# Altium footprint library STM32_PLC.PcbLib: 129 footprints (part 8 of 9)
Each footprint in its own frame and in the unit in brackets; x right, y up, seen from the top. Pads: shape width x height; smd on the part's side, far side on the other; paste and mask are expansions set on the pad; w line width, h text height; cw(c..) or ccw(c..) is an arc to the next point about the centre after c.
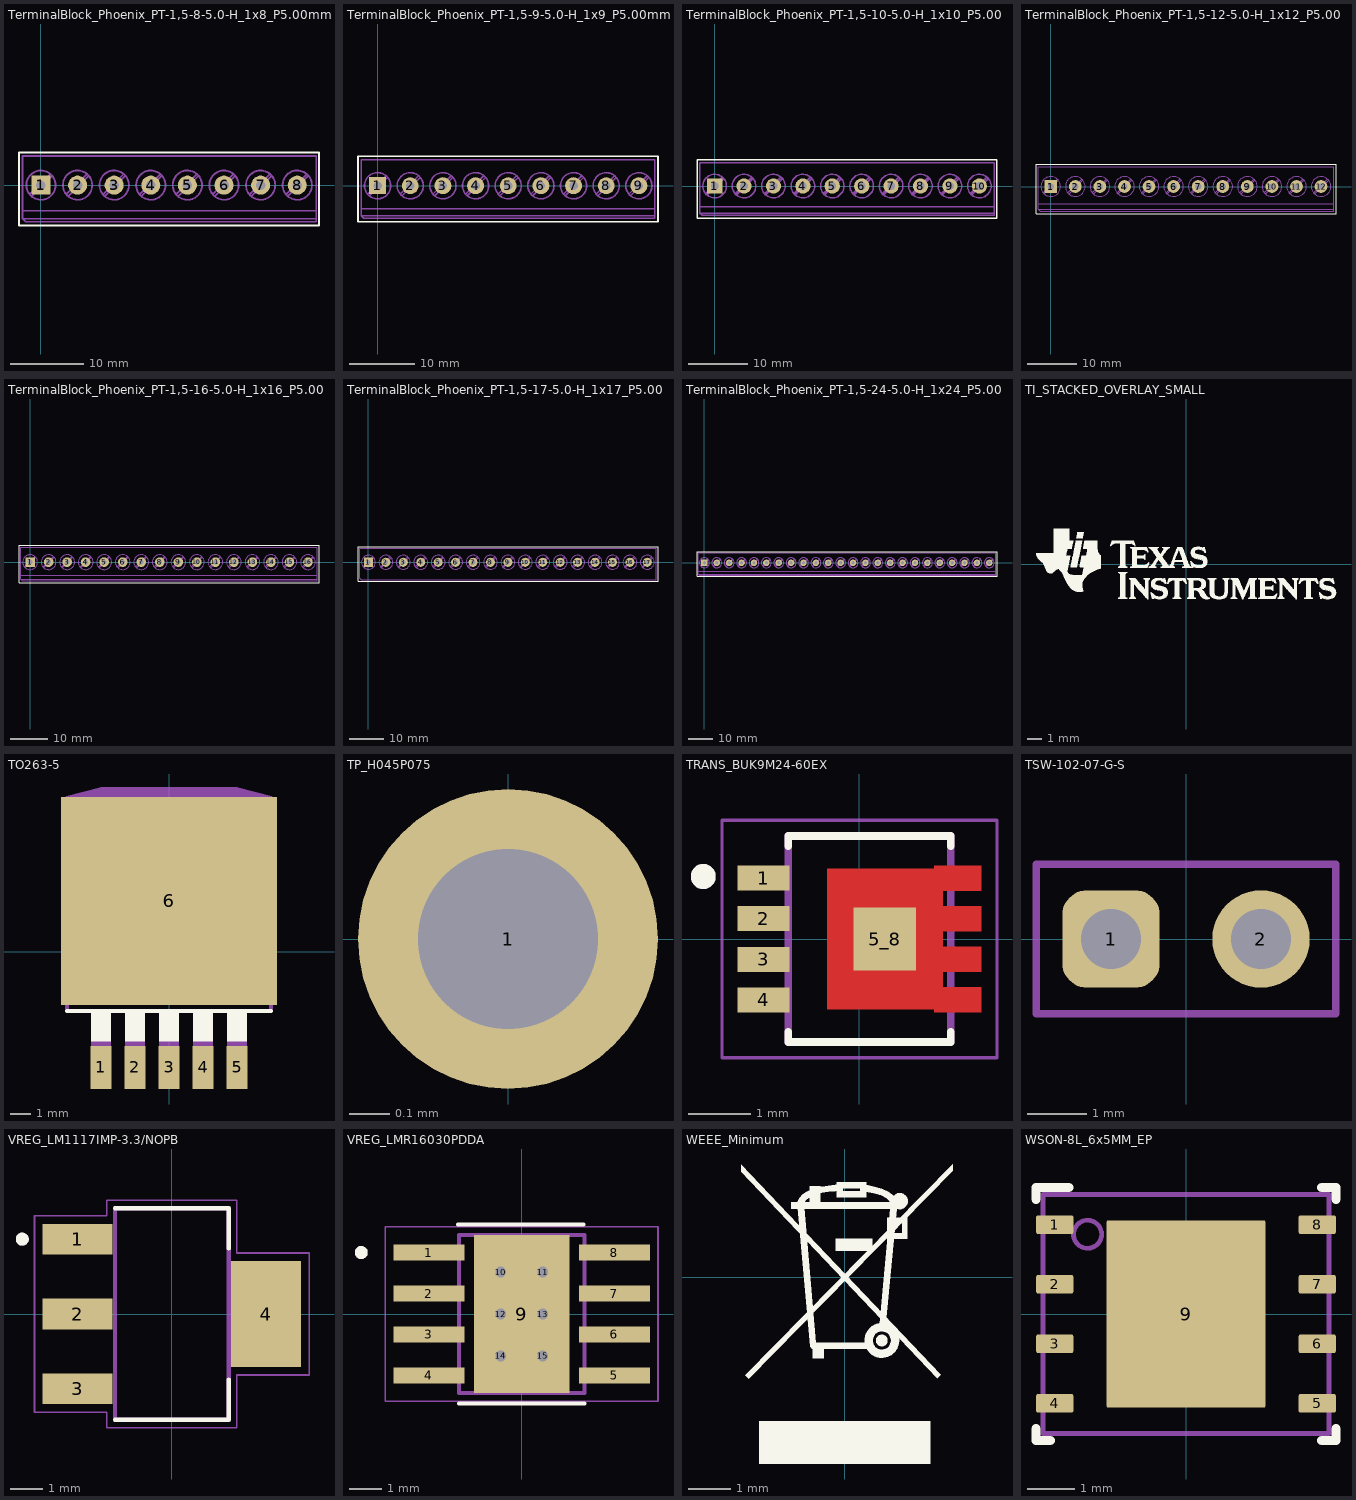
[diagram p7: the footprints below, top view; thin cyan lines are the x and y axes]

## TerminalBlock_Phoenix_PT-1,5-8-5.0-H_1x8_P5.00mm_Horizontal [mm]
pads (8):
  rect 2.6x2.6 hole 1.3: 1(0,0)
  round 2.6 hole 1.3: 2(5,0) 3(10,0) 4(15,0) 5(20,0) 6(25,0) 7(30,0) 8(35,0)
Mid-Layer 26:
  circle w0.254: c35,0 r2.18
  circle w0.254: c30,0 r2.18
  circle w0.254: c25,0 r2.18
  circle w0.254: c20,0 r2.18
  circle w0.254: c15,0 r2.18
  circle w0.254: c10,0 r2.18
  circle w0.254: c5,0 r2.18
  circle w0.254: c0,0 r2.18
  lines w0.254: -2.8,-4.66 -2.8,-5.3 -2.4,-5.3 ; -2.56,-4.6 37.592,-4.6 ; -2.56,-3.5 37.592,-3.5 ; -1.654,-1.388 -1.548,-1.281 ; -1.388,-1.654 -1.282,-1.547 ; 1.281,1.547 1.388,1.654 ; 1.547,1.281 1.654,1.388 ; 3.347,-1.388 3.742,-0.992 ; 3.613,-1.654 3.993,-1.274 ; 6.008,1.274 6.388,1.654 ; 6.259,0.992 6.654,1.388 ; 8.347,-1.388 8.742,-0.992 ; 8.613,-1.654 8.993,-1.274 ; 11.008,1.274 11.388,1.654 ; 11.259,0.992 11.654,1.388 ; 13.347,-1.388 13.742,-0.992 ; 13.613,-1.654 13.993,-1.274 ; 16.008,1.274 16.388,1.654 ; 16.259,0.992 16.654,1.388 ; 18.347,-1.388 18.742,-0.992 ; 18.613,-1.654 18.993,-1.274 ; 21.008,1.274 21.388,1.654 ; 21.259,0.992 21.654,1.388 ; 23.347,-1.388 23.742,-0.992 ; 23.613,-1.654 23.993,-1.274 ; 26.008,1.274 26.388,1.654 ; 26.259,0.992 26.654,1.388 ; 28.347,-1.388 28.742,-0.992 ; 28.613,-1.654 28.993,-1.274 ; 31.008,1.274 31.388,1.654 ; 31.259,0.992 31.654,1.388 ; 33.347,-1.388 33.742,-0.992 ; 33.613,-1.654 33.993,-1.274 ; 36.008,1.274 36.388,1.654 ; 36.259,0.992 36.654,1.388 ; -2.56,-5.06 37.592,-5.06 37.592,4.06 -2.56,4.06 -2.56,-5.06
Top Overlay:
  lines w0.254: -3,-5.5 37.973,-5.5 37.973,4.445 -3,4.445 -3,-5.5
Mechanical 6:
  circle w0.254: c35,0 r2
  circle w0.254: c30,0 r2
  circle w0.254: c25,0 r2
  circle w0.254: c20,0 r2
  circle w0.254: c15,0 r2
  circle w0.254: c10,0 r2
  circle w0.254: c5,0 r2
  circle w0.254: c0,0 r2
  lines w0.254: -2.5,-3.5 37.592,-3.556 ; -1.517,-1.273 1.273,1.517 ; -1.273,-1.517 1.517,1.273 ; 3.484,-1.273 6.273,1.517 ; 3.728,-1.517 6.517,1.273 ; 8.484,-1.273 11.273,1.517 ; 8.728,-1.517 11.517,1.273 ; 13.484,-1.273 16.273,1.517 ; 13.728,-1.517 16.517,1.273 ; 18.484,-1.273 21.273,1.517 ; 18.728,-1.517 21.517,1.273 ; 23.484,-1.273 26.273,1.517 ; 23.728,-1.517 26.517,1.273 ; 28.484,-1.273 31.273,1.517 ; 28.728,-1.517 31.517,1.273 ; 33.484,-1.273 36.273,1.517 ; 33.728,-1.517 36.517,1.273 ; 37.592,-4.6 -2.5,-4.6 ; -2.5,-4.6 -2.1,-5 37.592,-5 37.592,-2.75 37.592,1.75 37.592,4 -2.5,4 -2.5,-4.6
  text "'.Designator'" at 21.061,-3.298 h1

## TerminalBlock_Phoenix_PT-1,5-9-5.0-H_1x9_P5.00mm [mm]
pads (9):
  rect 2.6x2.6 hole 1.3: 1(0,0)
  round 2.6 hole 1.3: 2(5,0) 3(10,0) 4(15,0) 5(20,0) 6(25,0) 7(30,0) 8(35,0) 9(40,0)
Top Overlay:
  lines w0.254: -3,-5.5 42.926,-5.5 42.926,4.5 -3,4.5 -3,-5.5
Mechanical 6:
  circle w0.254: c0,0 r2
  circle w0.254: c5,0 r2
  circle w0.254: c10,0 r2
  circle w0.254: c15,0 r2
  circle w0.254: c20,0 r2
  circle w0.254: c25,0 r2
  circle w0.254: c30,0 r2
  circle w0.254: c35,0 r2
  circle w0.254: c40,0 r2
  lines w0.254: -2.5,-3.5 42.418,-3.5 ; -1.517,-1.273 1.273,1.517 ; -1.273,-1.517 1.517,1.273 ; 3.484,-1.273 6.273,1.517 ; 3.728,-1.517 6.517,1.273 ; 8.484,-1.273 11.273,1.517 ; 8.728,-1.517 11.517,1.273 ; 13.484,-1.273 16.273,1.517 ; 13.728,-1.517 16.517,1.273 ; 18.484,-1.273 21.273,1.517 ; 18.728,-1.517 21.517,1.273 ; 23.484,-1.273 26.273,1.517 ; 23.728,-1.517 26.517,1.273 ; 28.484,-1.273 31.273,1.517 ; 28.728,-1.517 31.517,1.273 ; 33.484,-1.273 36.273,1.517 ; 33.728,-1.517 36.517,1.273 ; 38.484,-1.273 41.273,1.517 ; 38.728,-1.517 41.517,1.273 ; 42.418,-4.6 -2.5,-4.6 ; -2.5,-4.6 -2.5,4 42.418,4 42.418,-5 -2.1,-5 -2.5,-4.6
  text "'.Designator'" at 21.061,-3.298 h1
3D body "TerminalBlock_Phoenix_PT-1,5-5-5.0-H_1x05_P5.00mm_Horizontal.step": height 11.4, standoff -3.6, extent -2.54,-4.936 23.03,4.064
3D body "TerminalBlock_Phoenix_PT-1,5-2-5.0-H_1x02_P5.00mm_Horizontal.step": height 11.4, standoff -3.6, extent 22.454,-4.936 33.024,4.064
3D body "TerminalBlock_Phoenix_PT-1,5-2-5.0-H_1x02_P5.00mm_Horizontal.step": height 11.4, standoff -3.6, extent 32.436,-4.936 43.006,4.064

## TerminalBlock_Phoenix_PT-1,5-10-5.0-H_1x10_P5.00mm_Horizontal - duplicate [mm]
pads (10):
  rect 2.6x2.6 hole 1.3: 1(0,0)
  round 2.6 hole 1.3: 2(5,0) 3(10,0) 4(15,0) 5(20,0) 6(25,0) 7(30,0) 8(35,0) 9(40,0) 10(45,0)
Top Overlay:
  lines w0.254: -3,-5.5 48,-5.5 48,4.5 -3,4.5 -3,-5.5
Mechanical 6:
  circle w0.254: c45,0 r2
  circle w0.254: c40,0 r2
  circle w0.254: c35,0 r2
  circle w0.254: c30,0 r2
  circle w0.254: c25,0 r2
  circle w0.254: c20,0 r2
  circle w0.254: c15,0 r2
  circle w0.254: c10,0 r2
  circle w0.254: c5,0 r2
  circle w0.254: c0,0 r2
  lines w0.254: -2.5,-3.5 47.5,-3.5 ; -1.517,-1.273 1.273,1.517 ; -1.273,-1.517 1.517,1.273 ; 3.484,-1.273 6.273,1.517 ; 3.728,-1.517 6.517,1.273 ; 8.484,-1.273 11.273,1.517 ; 8.728,-1.517 11.517,1.273 ; 13.484,-1.273 16.273,1.517 ; 13.728,-1.517 16.517,1.273 ; 18.484,-1.273 21.273,1.517 ; 18.728,-1.517 21.517,1.273 ; 23.484,-1.273 26.273,1.517 ; 23.728,-1.517 26.517,1.273 ; 28.484,-1.273 31.273,1.517 ; 28.728,-1.517 31.517,1.273 ; 33.484,-1.273 36.273,1.517 ; 33.728,-1.517 36.517,1.273 ; 38.484,-1.273 41.273,1.517 ; 38.728,-1.517 41.517,1.273 ; 43.484,-1.273 46.273,1.517 ; 43.728,-1.517 46.517,1.273 ; 47.5,-4.6 -2.5,-4.6 ; -2.5,-4.6 -2.1,-5 47.5,-5 47.5,4 -2.5,4 -2.5,-4.6
  text "'.Designator'" at 21.061,-3.298 h1
3D body "TerminalBlock_Phoenix_PT-1,5-10-5.0-H_1x10_P5.00mm_Horizontal.step": height 11.4, standoff -3.6, extent -2.54,-4.936 48.03,4.064

## TerminalBlock_Phoenix_PT-1,5-12-5.0-H_1x12_P5.00mm_Horizontal [mm]
pads (12):
  rect 2.6x2.6 hole 1.3: 1(0,0)
  round 2.6 hole 1.3: 2(5,0) 3(10,0) 4(15,0) 5(20,0) 6(25,0) 7(30,0) 8(35,0) 9(40,0) 10(45,0) 11(50,0) 12(55,0)
Top Overlay:
  lines w0.254: -3,-5.5 58.039,-5.5 58.039,4.5 -3,4.5 -3,-5.5
Mechanical 6:
  circle w0.254: c55,0 r2
  circle w0.254: c50,0 r2
  circle w0.254: c0,0 r2
  circle w0.254: c5,0 r2
  circle w0.254: c10,0 r2
  circle w0.254: c15,0 r2
  circle w0.254: c20,0 r2
  circle w0.254: c25,0 r2
  circle w0.254: c30,0 r2
  circle w0.254: c35,0 r2
  circle w0.254: c40,0 r2
  circle w0.254: c45,0 r2
  lines w0.254: -2.5,-3.5 57.404,-3.5 ; -1.517,-1.273 1.273,1.517 ; -1.273,-1.517 1.517,1.273 ; 3.484,-1.273 6.273,1.517 ; 3.728,-1.517 6.517,1.273 ; 8.484,-1.273 11.273,1.517 ; 8.728,-1.517 11.517,1.273 ; 13.484,-1.273 16.273,1.517 ; 13.728,-1.517 16.517,1.273 ; 18.484,-1.273 21.273,1.517 ; 18.728,-1.517 21.517,1.273 ; 23.484,-1.273 26.273,1.517 ; 23.728,-1.517 26.517,1.273 ; 28.484,-1.273 31.273,1.517 ; 28.728,-1.517 31.517,1.273 ; 33.484,-1.273 36.273,1.517 ; 33.728,-1.517 36.517,1.273 ; 38.484,-1.273 41.273,1.517 ; 38.728,-1.517 41.517,1.273 ; 43.484,-1.273 46.273,1.517 ; 43.728,-1.517 46.517,1.273 ; 48.484,-1.273 51.273,1.517 ; 48.728,-1.517 51.517,1.273 ; 53.484,-1.273 56.273,1.517 ; 53.728,-1.517 56.517,1.273 ; 57.404,-4.6 -2.5,-4.6 ; 57.531,-5 -2.1,-5 -2.5,-4.6 ; 57.531,4 -2.5,4 -2.5,-4.6 ; 57.54,-5 57.54,4
  text "'.Designator'" at 21.061,-3.298 h1
3D body "TerminalBlock_Phoenix_PT-1,5-12-5.0-H_1x12_P5.00mm_Horizontal.step": height 11.4, standoff -3.6, extent -2.54,-4.936 58.03,4.064

## TerminalBlock_Phoenix_PT-1,5-16-5.0-H_1x16_P5.00mm_Horizontal [mm]
pads (16):
  rect 2.6x2.6 hole 1.3: 1(0,0)
  round 2.6 hole 1.3: 2(5,0) 3(10,0) 4(15,0) 5(20,0) 6(25,0) 7(30,0) 8(35,0) 9(40,0) 10(45,0) 11(50,0) 12(55,0) 13(60,0) 14(65,0) 15(70,0) 16(75,0)
Top Overlay:
  lines w0.254: -3,-5.5 77.978,-5.5 77.978,4.5 -3,4.5 -3,-5.5
Mechanical 6:
  circle w0.254: c0,0 r2
  circle w0.254: c5,0 r2
  circle w0.254: c10,0 r2
  circle w0.254: c15,0 r2
  circle w0.254: c20,0 r2
  circle w0.254: c25,0 r2
  circle w0.254: c30,0 r2
  circle w0.254: c35,0 r2
  circle w0.254: c40,0 r2
  circle w0.254: c45,0 r2
  circle w0.254: c50,0 r2
  circle w0.254: c55,0 r2
  circle w0.254: c60,0 r2
  circle w0.254: c65,0 r2
  circle w0.254: c70,0 r2
  circle w0.254: c75,0 r2
  lines w0.254: -2.5,-3.5 77.47,-3.5 ; -1.517,-1.273 1.273,1.517 ; -1.273,-1.517 1.517,1.273 ; 3.484,-1.273 6.273,1.517 ; 3.728,-1.517 6.517,1.273 ; 8.484,-1.273 11.273,1.517 ; 8.728,-1.517 11.517,1.273 ; 13.484,-1.273 16.273,1.517 ; 13.728,-1.517 16.517,1.273 ; 18.484,-1.273 21.273,1.517 ; 18.728,-1.517 21.517,1.273 ; 23.484,-1.273 26.273,1.517 ; 23.728,-1.517 26.517,1.273 ; 28.484,-1.273 31.273,1.517 ; 28.728,-1.517 31.517,1.273 ; 33.484,-1.273 36.273,1.517 ; 33.728,-1.517 36.517,1.273 ; 38.484,-1.273 41.273,1.517 ; 38.728,-1.517 41.517,1.273 ; 43.484,-1.273 46.273,1.517 ; 43.728,-1.517 46.517,1.273 ; 48.484,-1.273 51.273,1.517 ; 48.728,-1.517 51.517,1.273 ; 53.484,-1.273 56.273,1.517 ; 53.728,-1.517 56.517,1.273 ; 58.484,-1.273 61.273,1.517 ; 58.728,-1.517 61.517,1.273 ; 63.484,-1.273 66.273,1.517 ; 63.728,-1.517 66.517,1.273 ; 68.484,-1.273 71.273,1.517 ; 68.728,-1.517 71.517,1.273 ; 73.484,-1.273 76.273,1.517 ; 73.728,-1.517 76.517,1.273 ; 77.47,-4.6 -2.5,-4.6 ; -2.5,-4.6 -2.1,-5 77.47,-5 77.47,4 -2.5,4 -2.5,-4.6
  text "'.Designator'" at 26.061,-3.298 h1
3D body "TerminalBlock_Phoenix_PT-1,5-12-5.0-H_1x12_P5.00mm_Horizontal.step": height 11.4, standoff -3.6, extent -2.54,-4.936 58.03,4.064
3D body "TerminalBlock_Phoenix_PT-1,5-2-5.0-H_1x02_P5.00mm_Horizontal.step": height 11.4, standoff -3.6, extent 57.455,-4.936 68.025,4.064
3D body "TerminalBlock_Phoenix_PT-1,5-2-5.0-H_1x02_P5.00mm_Horizontal.step": height 11.4, standoff -3.6, extent 67.437,-4.936 78.007,4.064

## TerminalBlock_Phoenix_PT-1,5-17-5.0-H_1x17_P5.00mm_Horizontal [mm]
pads (17):
  rect 2.6x2.6 hole 1.3: 1(0,0)
  round 2.6 hole 1.3: 2(5,0) 3(10,0) 4(15,0) 5(20,0) 6(25,0) 7(30,0) 8(35,0) 9(40,0) 10(45,0) 11(50,0) 12(55,0) 13(60,0) 14(65,0) 15(70,0) 16(75,0) 17(80,0)
Top Overlay:
  lines w0.254: -3,-5.5 83.058,-5.5 83.058,4.5 -3,4.5 -3,-5.5
Mechanical 6:
  circle w0.254: c75,0 r2
  circle w0.254: c70,0 r2
  circle w0.254: c65,0 r2
  circle w0.254: c60,0 r2
  circle w0.254: c55,0 r2
  circle w0.254: c50,0 r2
  circle w0.254: c45,0 r2
  circle w0.254: c40,0 r2
  circle w0.254: c35,0 r2
  circle w0.254: c30,0 r2
  circle w0.254: c25,0 r2
  circle w0.254: c20,0 r2
  circle w0.254: c15,0 r2
  circle w0.254: c10,0 r2
  circle w0.254: c5,0 r2
  circle w0.254: c0,0 r2
  circle w0.254: c80,0 r2
  lines w0.254: -1.517,-1.273 1.273,1.517 ; -1.273,-1.517 1.517,1.273 ; 3.484,-1.273 6.273,1.517 ; 3.728,-1.517 6.517,1.273 ; 8.484,-1.273 11.273,1.517 ; 8.728,-1.517 11.517,1.273 ; 13.484,-1.273 16.273,1.517 ; 13.728,-1.517 16.517,1.273 ; 18.484,-1.273 21.273,1.517 ; 18.728,-1.517 21.517,1.273 ; 23.484,-1.273 26.273,1.517 ; 23.728,-1.517 26.517,1.273 ; 28.484,-1.273 31.273,1.517 ; 28.728,-1.517 31.517,1.273 ; 33.484,-1.273 36.273,1.517 ; 33.728,-1.517 36.517,1.273 ; 38.484,-1.273 41.273,1.517 ; 38.728,-1.517 41.517,1.273 ; 43.484,-1.273 46.273,1.517 ; 43.728,-1.517 46.517,1.273 ; 48.484,-1.273 51.273,1.517 ; 48.728,-1.517 51.517,1.273 ; 53.484,-1.273 56.273,1.517 ; 53.728,-1.517 56.517,1.273 ; 58.484,-1.273 61.273,1.517 ; 58.728,-1.517 61.517,1.273 ; 63.484,-1.273 66.273,1.517 ; 63.728,-1.517 66.517,1.273 ; 68.484,-1.273 71.273,1.517 ; 68.728,-1.517 71.517,1.273 ; 73.484,-1.273 76.273,1.517 ; 73.728,-1.517 76.517,1.273 ; 78.484,-1.273 81.273,1.517 ; 78.728,-1.517 81.517,1.273 ; -2.5,-4.6 -2.1,-5 82.55,-5 82.55,4 -2.5,4 -2.5,-4.6
  text "'.Designator'" at 26.061,-3.298 h1
3D body "TerminalBlock_Phoenix_PT-1,5-12-5.0-H_1x12_P5.00mm_Horizontal.step": height 11.4, standoff -3.6, extent -2.54,-4.936 58.03,4.064
3D body "TerminalBlock_Phoenix_PT-1,5-5-5.0-H_1x05_P5.00mm_Horizontal.step": height 11.4, standoff -3.6, extent 57.455,-4.936 83.025,4.064

## TerminalBlock_Phoenix_PT-1,5-24-5.0-H_1x24_P5.00mm_Horizontal [mm]
pads (24):
  rect 2.6x2.6 hole 1.3: 1(0,0)
  round 2.6 hole 1.3: 2(5,0) 3(10,0) 4(15,0) 5(20,0) 6(25,0) 7(30,0) 8(35,0) 9(40,0) 10(45,0) 11(50,0) 12(55,0) 13(60,0) 14(65,0) 15(70,0) 16(75,0) 17(80,0) 18(85,0) 19(90,0) 20(95,0) 21(100,0) 22(105,0) 23(110,0) 24(115,0)
Top Overlay:
  lines w0.254: -3,-5.5 118.1,-5.5 118.1,4.5 -3,4.5 -3,-5.5
Mechanical 6:
  circle w0.254: c75,0 r2
  circle w0.254: c70,0 r2
  circle w0.254: c65,0 r2
  circle w0.254: c60,0 r2
  circle w0.254: c55,0 r2
  circle w0.254: c50,0 r2
  circle w0.254: c45,0 r2
  circle w0.254: c40,0 r2
  circle w0.254: c35,0 r2
  circle w0.254: c30,0 r2
  circle w0.254: c25,0 r2
  circle w0.254: c20,0 r2
  circle w0.254: c15,0 r2
  circle w0.254: c10,0 r2
  circle w0.254: c5,0 r2
  circle w0.254: c0,0 r2
  circle w0.254: c95,0 r2
  circle w0.254: c115,0 r2
  circle w0.254: c110,0 r2
  circle w0.254: c105,0 r2
  circle w0.254: c100,0 r2
  circle w0.254: c90,0 r2
  circle w0.254: c85,0 r2
  circle w0.254: c80,0 r2
  lines w0.254: -2.5,-3.5 117.5,-3.5 ; -1.517,-1.273 1.273,1.517 ; -1.273,-1.517 1.517,1.273 ; 3.484,-1.273 6.273,1.517 ; 3.728,-1.517 6.517,1.273 ; 8.484,-1.273 11.273,1.517 ; 8.728,-1.517 11.517,1.273 ; 13.484,-1.273 16.273,1.517 ; 13.728,-1.517 16.517,1.273 ; 18.484,-1.273 21.273,1.517 ; 18.728,-1.517 21.517,1.273 ; 23.484,-1.273 26.273,1.517 ; 23.728,-1.517 26.517,1.273 ; 28.484,-1.273 31.273,1.517 ; 28.728,-1.517 31.517,1.273 ; 33.484,-1.273 36.273,1.517 ; 33.728,-1.517 36.517,1.273 ; 38.484,-1.273 41.273,1.517 ; 38.728,-1.517 41.517,1.273 ; 43.484,-1.273 46.273,1.517 ; 43.728,-1.517 46.517,1.273 ; 48.484,-1.273 51.273,1.517 ; 48.728,-1.517 51.517,1.273 ; 53.484,-1.273 56.273,1.517 ; 53.728,-1.517 56.517,1.273 ; 58.484,-1.273 61.273,1.517 ; 58.728,-1.517 61.517,1.273 ; 63.484,-1.273 66.273,1.517 ; 63.728,-1.517 66.517,1.273 ; 68.484,-1.273 71.273,1.517 ; 68.728,-1.517 71.517,1.273 ; 73.484,-1.273 76.273,1.517 ; 73.728,-1.517 76.517,1.273 ; 78.484,-1.273 81.273,1.517 ; 78.728,-1.517 81.517,1.273 ; 83.484,-1.273 86.273,1.517 ; 83.728,-1.517 86.517,1.273 ; 88.484,-1.273 91.273,1.517 ; 88.728,-1.517 91.517,1.273 ; 93.484,-1.273 96.273,1.517 ; 93.728,-1.517 96.517,1.273 ; 98.484,-1.273 101.273,1.517 ; 98.728,-1.517 101.517,1.273 ; 103.484,-1.273 106.273,1.517 ; 103.728,-1.517 106.517,1.273 ; 108.484,-1.273 111.273,1.517 ; 108.728,-1.517 111.517,1.273 ; 113.484,-1.273 116.273,1.517 ; 113.728,-1.517 116.517,1.273 ; 117.5,-4.6 -2.5,-4.6 ; -2.5,-4.6 -2.1,-5 117.6,-5 117.6,4 -2.5,4 -2.5,-4.6
  text "'.Designator'" at 26.061,-3.298 h1
3D body "TerminalBlock_Phoenix_PT-1,5-12-5.0-H_1x12_P5.00mm_Horizontal.step": height 11.4, standoff -3.6, extent -2.54,-4.936 58.03,4.064
3D body "TerminalBlock_Phoenix_PT-1,5-12-5.0-H_1x12_P5.00mm_Horizontal.step": height 11.4, standoff -3.6, extent 57.404,-4.936 117.974,4.064

## TI_STACKED_OVERLAY_SMALL [mm]
height 0.6
Top Overlay:
  drawing of 18 lines, arcs and shapes, not listed

## TO263-5 [mil]
pads (6):
  rect 42x85 smd: 1(-134,-228) 2(-67,-228) 3(0,-228) 4(67,-228) 5(134,-228)
  rect 425.2x409.84 smd: 6(0,100)
Top Overlay:
  region: -115,-176 -153,-176 -153,-114.17 -115,-114.17
  region: 153,-176 115,-176 115,-114.17 153,-114.17
  region: 86,-176 48,-176 48,-114.17 86,-114.17
  region: 19,-176 -19,-176 -19,-114.17 19,-114.17
  region: -48,-176 -86,-176 -86,-114.17 -48,-114.17
  lines w8: -200.55,-117.32 200.55,-117.32
Mechanical 13:
  region: 201,302.29 201,286.1 -201,286.1 -201,302.29 -133,320.29 133,320.29
  region: 153,-260 115,-260 115,-175 153,-175
  region: 86,-260 48,-260 48,-175 86,-175
  region: 19,-260 -19,-260 -19,-175 19,-175
  region: -48,-260 -86,-260 -86,-175 -48,-175
  region: -115,-260 -153,-260 -153,-175 -115,-175
  lines w8: -200.55,-113.39 -200.55,282.09 200.55,282.09 200.55,-113.39 ; -200.98,286.1 200.98,286.1 200.98,302.28 132.99,320.28 -132.99,320.28 -200.98,302.28 -200.98,286.1
3D body "TO-263-5_TabPin6.step": height 174.02, standoff 0, extent -196.85,-259.09 196.85,331.46

## TP_H045P075 [mm] "TP_H0.45P0.75"
pads (1):
  round 0.75 hole 0.45: 1(0,0)

## TRANS_BUK9M24-60EX [mm]
height 0.9
pads (5):
  rect 0.83x0.4 smd paste-1 mask+0.05: 1(-1.535,0.975) 2(-1.535,0.325) 3(-1.535,-0.325) 4(-1.535,-0.975)
  rect 1x1 smd paste-1 mask+0: 5_8(0.405,0)
Top Layer:
  region: 1.95,0.775 1.33,0.775 1.33,0.525 1.95,0.525 1.95,0.125 1.33,0.125 1.33,-0.125 1.95,-0.125 1.95,-0.525 1.33,-0.525 1.33,-0.775 1.95,-0.775 1.95,-1.175 1.2,-1.175 1.2,-1.125 -0.52,-1.125 -0.52,1.125 1.2,1.125 1.2,1.175 1.95,1.175
Top Overlay:
  circle w0.2: c-2.5,1 r0.1
  lines w0.127: -1.14,-1.49 -1.14,-1.65 1.46,-1.65 1.46,-1.49 ; -1.14,1.49 -1.14,1.65 1.46,1.65 1.46,1.49
Top Paste:
  region: -1.12,0.825 -1.95,0.825 -1.95,1.125 -1.12,1.125
  region: -1.12,0.175 -1.95,0.175 -1.95,0.475 -1.12,0.475
  region: -1.12,-0.475 -1.95,-0.475 -1.95,-0.175 -1.12,-0.175
  region: -1.12,-1.125 -1.95,-1.125 -1.95,-0.825 -1.12,-0.825
  region: 1.95,0.825 1.2,0.825 1.2,1.125 1.95,1.125
  region: 1.95,0.175 1.2,0.175 1.2,0.475 1.95,0.475
  region: 1.95,-0.475 1.2,-0.475 1.2,-0.175 1.95,-0.175
  region: 1.95,-1.125 1.2,-1.125 1.2,-0.825 1.95,-0.825
  region: 0.04,0.309 -0.47,0.309 -0.47,0.944 0.04,0.944
  region: 0.04,-0.944 -0.47,-0.944 -0.47,-0.309 0.04,-0.309
  region: 0.9,0.309 0.39,0.309 0.39,0.944 0.9,0.944
  region: 0.9,-0.944 0.39,-0.944 0.39,-0.309 0.9,-0.309
Top Solder:
  region: 2,0.725 1.38,0.725 1.38,0.575 2,0.575 2,0.075 1.38,0.075 1.38,-0.075 2,-0.075 2,-0.575 1.38,-0.575 1.38,-0.725 2,-0.725 2,-1.225 1.15,-1.225 1.15,-1.175 -0.57,-1.175 -0.57,1.175 1.15,1.175 1.15,1.225 2,1.225
Mechanical 13:
  circle w0.2: c-2.5,1 r0.1
  lines w0.127: -1.14,-1.65 1.46,-1.65 1.46,1.65 -1.14,1.65 -1.14,-1.65
Mechanical 15:
  lines w0.05: -2.2,-1.9 2.2,-1.9 2.2,1.9 -2.2,1.9 -2.2,-1.9
3D body "step_temp.STEP": height 0.9, standoff 0, extent -1.65,-1.65 1.65,1.65

## TSW-102-07-G-S [mm] "Samtec 100mil, 1x2, 230 mil above insulator"
height 8.382
pads (2):
  rrect50% 1.65x1.65 hole 1.016: 1(-1.27,0)
  round 1.65 hole 1.016: 2(1.27,0)
Mechanical 5:
  lines w0.127: -2.54,-1.27 2.54,-1.27 2.54,1.27 -2.54,1.27 -2.54,-1.27
  text ".Designator" at 0.701,0.626 h1.02
3D body "SamtecTSW-07_2x1.stp": height 8.38, standoff -2.54, extent -2.54,-1.27 2.54,1.27

## VREG_LM1117IMP-3.3/NOPB [mm]
height 1.8
pads (4):
  rect 2.15x0.95 smd: 1(-2.9,2.3) 2(-2.9,0) 3(-2.9,-2.3)
  rect 2.15x3.25 smd: 4(2.9,0)
Top Overlay:
  circle w0.2: c-4.6,2.3 r0.1
  lines w0.127: -1.75,-3.25 1.75,-3.25 1.75,-2.01 ; -1.75,3.25 1.75,3.25 1.75,2.01
Mechanical 13:
  circle w0.2: c-4.6,2.3 r0.1
  lines w0.127: -1.75,-3.25 1.75,-3.25 1.75,3.25 -1.75,3.25 -1.75,-3.25
Mechanical 15:
  lines w0.05: -4.225,-3.025 -2,-3.025 -2,-3.5 2,-3.5 2,-1.875 4.225,-1.875 4.225,1.875 2,1.875 2,3.5 -2,3.5 -2,3.025 -4.225,3.025 -4.225,-3.025
3D body "step_temp.STEP": height 1.8, standoff 0, extent -3.499,-3.25 3.499,3.25

## VREG_LMR16030PDDA [mm]
height 1.7
pads (15):
  rect 2.2x0.5 smd paste-0.025 mask+0.07: 1(-2.875,1.905) 2(-2.875,0.635) 3(-2.875,-0.635) 4(-2.875,-1.905) 5(2.875,-1.905) 6(2.875,-0.635) 7(2.875,0.635) 8(2.875,1.905)
  rect 2.95x4.9 smd paste-3 mask+0: 9(0,0)
  round 0.44 hole 0.33: 10(-0.65,1.3) 11(0.65,1.3) 12(-0.65,0) 13(0.65,0) 14(-0.65,-1.3) 15(0.65,-1.3)
Top Overlay:
  circle w0.2: c-4.975,1.905 r0.1
  lines w0.127: -1.98,2.77 1.92,2.77 ; -1.95,-2.77 1.95,-2.77
Top Paste:
  region: 1.3,-1.65 -1.3,-1.65 -1.3,1.65 1.3,1.65
Top Solder:
  region: 1.3,-1.65 -1.3,-1.65 -1.3,1.65 1.3,1.65
Mechanical 13:
  circle w0.2: c-4.975,1.905 r0.1
  lines w0.127: -1.95,-2.45 -1.95,2.45 1.95,2.45 1.95,-2.45 -1.95,-2.45
Mechanical 15:
  lines w0.05: -4.225,-2.7 4.225,-2.7 4.225,2.7 -4.225,2.7 -4.225,-2.7
3D body "step_temp.STEP": height 1.7, standoff 0, extent -3,-2.45 3,2.45

## WEEE_Minimum [mm] "WEEElie bin"
Top Overlay:
  drawing of 23 lines, arcs and shapes, not listed

## WSON-8L_6x5MM_EP [mm] "SMD, 8-Leads, Body 6x5mm, Pitch 1.27mm"
height 0.8
pads (13):
  rrect25% 0.8x0.4 smd: 1(-2.8,1.905) 2(-2.8,0.635) 3(-2.8,-0.635) 4(-2.8,-1.905) 5(2.8,-1.905) 6(2.8,-0.635) 7(2.8,0.635) 8(2.8,1.905)
  rrect3% 3.4x4 smd paste-3: 9(0,0)
  rrect50% 1.468x1.698 on Top Paste: ""(-0.834,-0.949) ""(-0.834,0.949) ""(0.834,-0.949) ""(0.834,0.949)
Top Overlay:
  lines w0.2: -3.2,-2.45 -3.2,-2.7 -2.9,-2.7 ; -3.2,2.45 -3.2,2.7 -2.5,2.7 ; 2.9,-2.7 3.2,-2.7 3.2,-2.45 ; 2.9,2.7 3.2,2.7 3.2,2.45
Mechanical 5:
  circle w0.1: c-2.1,1.7 r0.3
  lines w0.1: -3.05,-2.55 3.05,-2.55 3.05,2.55 -3.05,2.55 -3.05,-2.55
  text ".Designator" at -1,-0.2 h0.6
3D body: height 0.8, standoff 0, extent -3.05,-2.55 3.05,2.55
3D body: height 0.8, standoff 0.5, extent -2.399,1.401 -1.8,2